# EAGLE library part DIODE-DUAL (library discrete)
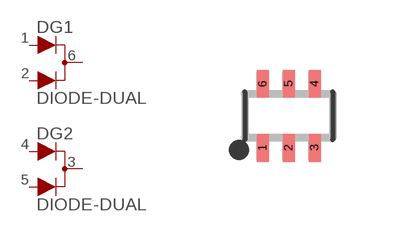
[diagram p13: symbol with the pads of SOT363; footprint SOT363]

Designator prefix D; gates G1=DIODE-DUAL G2=DIODE-DUAL

## DIODE-DUAL (PROD_ID: DIO-15412; VALUE: BAV70S,115)  [SOT363]
1  G1:A1  pas
2  G1:A2  pas
3  G2:C  pas
4  G2:A1  pas
5  G2:A2  pas
6  G1:C  pas

## Footprint SOT363 (pad centres in mm)
smd 0.3 x 0.7: 1 -0.65,-0.8; 2 0,-0.8; 3 0.65,-0.8; 4 0.65,0.8; 5 0,0.8; 6 -0.65,0.8